# EAGLE library part TLP621-2 (library photocouplers)
SHARP OPTO COUPLER
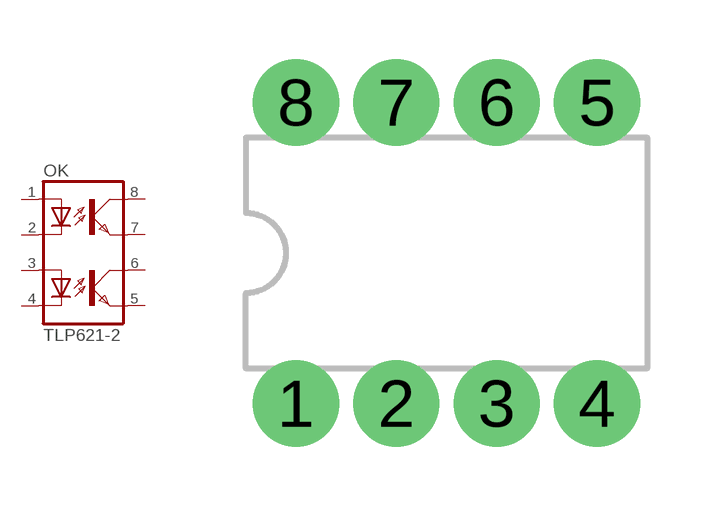
[diagram p0: symbol with the pads of DIP8; footprint DIP8]

Designator prefix OK

## TLP621-2  [DIP8]
1  A  pas
2  C  pas
3  A1  pas
4  C1  pas
5  EMIT1  pas
6  COL1  pas
7  EMIT  pas
8  COL  pas

## Footprint DIP8 (pad centres in mm)
Dual In Line Package
drill 1 pad 2.184: 1 -3.81,-3.81; 2 -1.27,-3.81; 3 1.27,-3.81; 4 3.81,-3.81; 5 3.81,3.81; 6 1.27,3.81; 7 -1.27,3.81; 8 -3.81,3.81